# Altium schematic symbol library REF2030.Schlib: 1 symbol
Pins are listed as number, name and electrical type; pins without a type are passive.

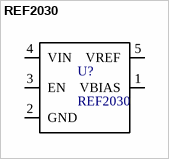
[diagram p0: symbol REF2030]

## REF2030
designator U?
Low Drift Dual Output VREF VREF/2 Reference (3V)
pins: 1 VBIAS, 2 GND, 3 EN, 4 VIN, 5 VREF